# Altium footprint library PSON.PcbLib: 7 footprints
Each footprint in its own frame and in the unit in brackets; x right, y up, seen from the top. Pads: shape width x height; smd on the part's side, far side on the other; paste and mask are expansions set on the pad; w line width, h text height; cw(c..) or ccw(c..) is an arc to the next point about the centre after c.
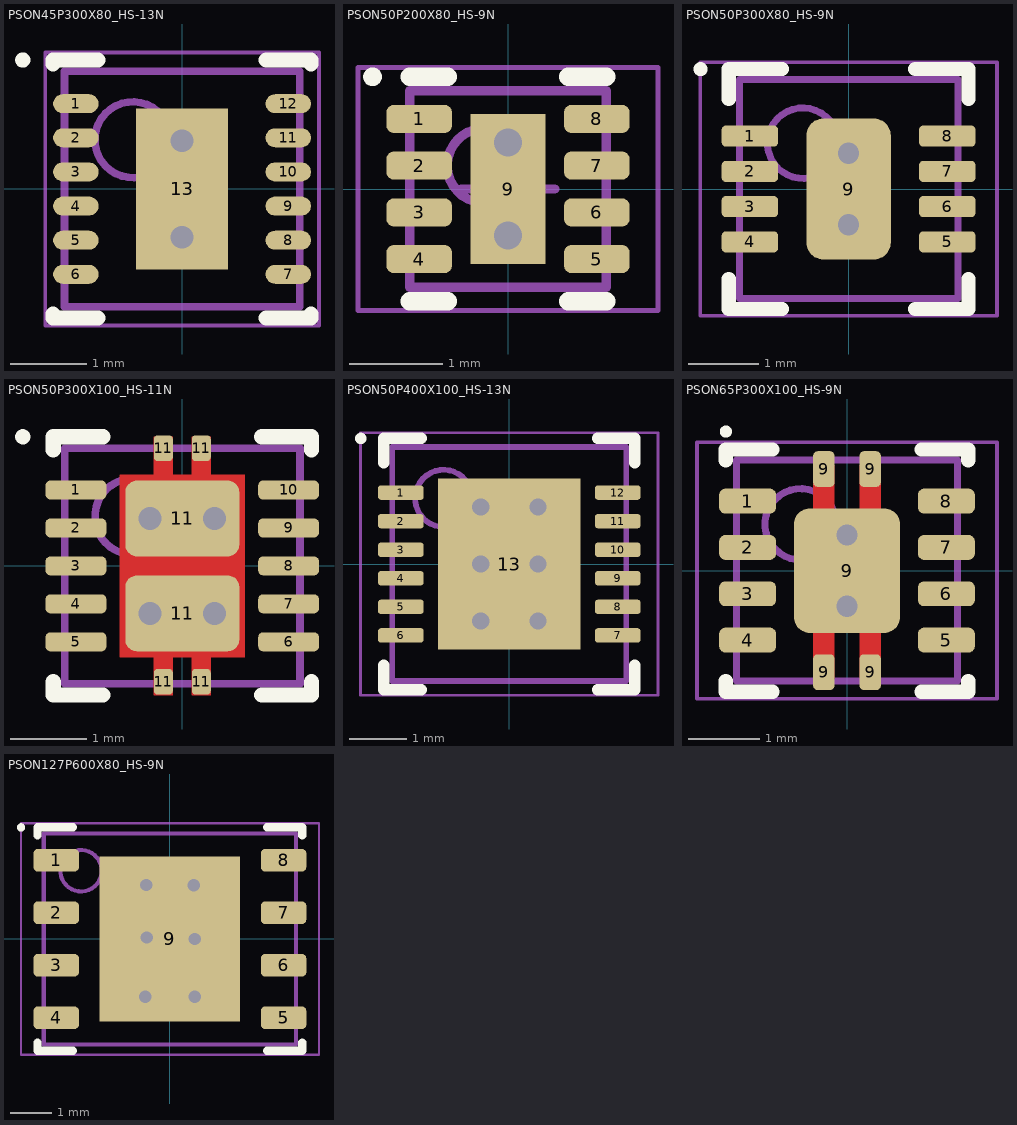
[diagram p0: the footprints below, top view; thin cyan lines are the x and y axes]

## PSON45P300X80_HS-13N [mm] "PSON, 12-Leads, Body 3,00x3,00mm, Pitch 0,45mm, Thermal Pad 2,02x1,21mm, IPC Medium Density"
height 0.8
pads (13):
  oval 0.6x0.25 smd: 1(-1.4,1.125) 2(-1.4,0.675) 3(-1.4,0.225) 4(-1.4,-0.225) 5(-1.4,-0.675) 6(-1.4,-1.125) 7(1.4,-1.125) 8(1.4,-0.675) 9(1.4,-0.225) 10(1.4,0.225) 11(1.4,0.675) 12(1.4,1.125)
  rect 1.21x2.12 smd paste-0.605: 13(0,0)
via 0,0.635 diameter 0.6 hole 0.3
via 0,-0.635 diameter 0.6 hole 0.3
Top Overlay:
  circle w0.1: c-2.1,1.7 r0.05
  lines w0.2: -1.7,-1.65 -1.7,-1.7 -1.11,-1.7 ; -1.7,1.65 -1.7,1.7 -1.11,1.7 ; 1.11,-1.7 1.7,-1.7 1.7,-1.65 ; 1.11,1.7 1.7,1.7 1.7,1.65
Top Paste:
  rectangle: -0.565,-1.05 0.565,-0.15
  rectangle: -0.565,0.15 0.565,1.05
Top Assembly:
  circle w0.1: c-0.65,0.65 r0.5
  lines w0.1: -1.55,-1.55 1.55,-1.55 1.55,1.55 -1.55,1.55 -1.55,-1.55
Mechanical 15:
  lines w0.05: -1.805,-1.8 1.805,-1.8 1.805,1.8 -1.805,1.8 -1.805,-1.8
  lines w0.1: -0.5,0 0.5,0 ; 0,-0.5 0,0.5
3D body "PSON45P300X80_HS-13N.step": height 0.8, standoff 0, extent -1.551,-1.55 1.551,1.55

## PSON50P200X80_HS-9N [mm] "SON, 8-Leads, Body 2,00x2,00mm, Pitch 0,50mm, Thermal Pad 1,60x0,69mm, IPC Medium Density"
height 0.8
pads (9):
  rrect50% 0.7x0.3 smd: 1(-0.95,0.75) 2(-0.95,0.25) 3(-0.95,-0.25) 4(-0.95,-0.75) 5(0.95,-0.75) 6(0.95,-0.25) 7(0.95,0.25) 8(0.95,0.75)
  rect 0.8x1.6 smd: 9(0,0)
via 0,0.5 diameter 0.6 hole 0.3
via 0,-0.5 diameter 0.6 hole 0.3
Top Overlay:
  circle w0.1: c-1.45,1.2 r0.05
  lines w0.2: -1.05,-1.2 -0.645,-1.2 ; -1.05,1.2 -0.645,1.2 ; 0.645,-1.2 1.05,-1.2 ; 0.645,1.2 1.05,1.2
Top Assembly:
  circle w0.1: c-0.25,0.25 r0.4
  lines w0.1: -1.05,-1.05 1.05,-1.05 1.05,1.05 -1.05,1.05 -1.05,-1.05
Mechanical 15:
  lines w0.05: -1.605,-1.3 1.605,-1.3 1.605,1.3 -1.605,1.3 -1.605,-1.3
  lines w0.1: -0.5,0 0.5,0 ; 0,-0.5 0,0.5
3D body "SON50P200X80_HS-9N.step": height 0.8, standoff 0, extent -1.1,-1.05 1.1,1.05

## PSON50P300X80_HS-9N [mm] "SON, 8-Leads, Body 3,00x3,00mm, Pitch 0,50mm, Thermal Pad 2,00x1,20mm, IPC Medium Density"
height 0.8
pads (9):
  rrect40% 0.8x0.3 smd: 1(-1.4,0.75) 2(-1.4,0.25) 3(-1.4,-0.25) 4(-1.4,-0.75) 5(1.4,-0.75) 6(1.4,-0.25) 7(1.4,0.25) 8(1.4,0.75)
  rrect40% 1.2x2 smd: 9(0,0)
via 0,-0.508 diameter 0.6 hole 0.3
via 0,0.508 diameter 0.6 hole 0.3
Top Overlay:
  circle w0.1: c-2.1,1.7 r0.05
  lines w0.2: -1.7,-1.275 -1.7,-1.7 -0.945,-1.7 ; -1.7,1.275 -1.7,1.7 -0.945,1.7 ; 0.945,-1.7 1.7,-1.7 1.7,-1.275 ; 0.945,1.7 1.7,1.7 1.7,1.275
Top Assembly:
  circle w0.1: c-0.65,0.65 r0.5
  lines w0.1: -1.55,-1.55 1.55,-1.55 1.55,1.55 -1.55,1.55 -1.55,-1.55
Mechanical 15:
  lines w0.05: -2.105,-1.8 2.105,-1.8 2.105,1.8 -2.105,1.8 -2.105,-1.8
  lines w0.1: -0.5,0 0.5,0 ; 0,-0.5 0,0.5
3D body "SON50P300X80_HS-9N.step": height 0.8, standoff 0, extent -1.6,-1.55 1.6,1.55

## PSON50P300X100_HS-11N [mm] "SON, 10-Leads, Body 3,00x3,00mm, Pitch 0,50mm, Thermal Pad 2,40x1,65mm, IPC Medium Density"
height 1
pads (16):
  rrect50% 0.8x0.25 smd: 1(-1.4,1) 2(-1.4,0.5) 3(-1.4,0) 4(-1.4,-0.5) 5(-1.4,-1) 6(1.4,-1) 7(1.4,-0.5) 8(1.4,0) 9(1.4,0.5) 10(1.4,1)
  rrect40% 0.25x0.34 smd: 11(-0.25,-1.525) 11(-0.25,1.55) 11(0.25,-1.525) 11(0.25,1.55)
  rrect30% 1.5x1 smd: 11(0,-0.625) 11(0,0.625)
via 0.425,0.625 diameter 0.6 hole 0.3
via -0.425,0.625 diameter 0.6 hole 0.3
via 0.425,-0.625 diameter 0.6 hole 0.3
via -0.425,-0.625 diameter 0.6 hole 0.3
Top Layer:
  region: -0.375,-1.2 -0.375,-1.7 -0.125,-1.7 -0.125,-1.2
  region: 0.125,-1.2 0.125,-1.7 0.375,-1.7 0.375,-1.2
  region: 0.125,1.7 0.125,1.2 0.375,1.2 0.375,1.7
  region: -0.375,1.7 -0.375,1.2 -0.125,1.2 -0.125,1.7
  region: -0.825,1.2 -0.825,-1.2 0.825,-1.2 0.825,1.2
Top Overlay:
  circle w0.1: c-2.1,1.7 r0.05
  lines w0.2: -1.7,-1.525 -1.7,-1.7 -1.045,-1.7 ; -1.7,1.525 -1.7,1.7 -1.045,1.7 ; 1.045,-1.7 1.7,-1.7 1.7,-1.525 ; 1.045,1.7 1.7,1.7 1.7,1.525
Top Solder:
  rectangle: -0.475,-1.575 0.475,-1.2
  rectangle: 0.775,-1.225 1.775,1.225
  rectangle: -1.825,-1.225 -0.825,1.225
  rectangle: -0.475,1.225 0.475,1.6
  region: -0.9,1.275 0.9,1.275 0.9,-1.275 -0.9,-1.275
Top Assembly:
  circle w0.1: c-0.65,0.65 r0.5
  lines w0.1: -1.55,-1.55 -1.55,1.55 1.55,1.55 1.55,-1.55 -1.55,-1.55
3D body "User Library-WSON-10_Ti.STEP": height 0.8, standoff 0, extent -1.55,-1.55 1.55,1.55

## PSON50P400X100_HS-13N [mm] "PSON, 12-Leads, Body 4,00x4,00mm, Pitch 0,50mm, Thermal Pad 3,00x2,49mm, IPC Medium Density"
height 1
pads (13):
  rrect40% 0.8x0.25 smd: 1(-1.9,1.25) 2(-1.9,0.75) 3(-1.9,0.25) 4(-1.9,-0.25) 5(-1.9,-0.75) 6(-1.9,-1.25) 7(1.9,-1.25) 8(1.9,-0.75) 9(1.9,-0.25) 10(1.9,0.25) 11(1.9,0.75) 12(1.9,1.25)
  rect 2.49x3 smd paste-1.245: 13(0,0)
via 0.5,-1 diameter 0.6 hole 0.3
via -0.5,-1 diameter 0.6 hole 0.3
via 0.5,0 diameter 0.6 hole 0.3
via -0.5,0 diameter 0.6 hole 0.3
via 0.5,1 diameter 0.6 hole 0.3
via -0.5,1 diameter 0.6 hole 0.3
Top Overlay:
  circle w0.1: c-2.6,2.2 r0.05
  lines w0.2: -2.2,-1.775 -2.2,-2.2 -1.545,-2.2 ; -2.2,1.775 -2.2,2.2 -1.545,2.2 ; 1.545,-2.2 2.2,-2.2 2.2,-1.775 ; 1.545,2.2 2.2,2.2 2.2,1.775
Top Paste:
  rectangle: 0.1,-1.4 1.15,-0.1
  rectangle: 0.1,0.1 1.15,1.4
  rectangle: -1.15,-1.4 -0.1,-0.1
  rectangle: -1.15,0.1 -0.1,1.4
Top Assembly:
  circle w0.1: c-1.15,1.15 r0.5
  lines w0.1: -2.05,-2.05 2.05,-2.05 2.05,2.05 -2.05,2.05 -2.05,-2.05
Mechanical 15:
  lines w0.05: -2.605,-2.3 2.605,-2.3 2.605,2.3 -2.605,2.3 -2.605,-2.3
  lines w0.1: -0.5,0 0.5,0 ; 0,-0.5 0,0.5
3D body "SON50P400X100_HS-13N.step": height 1, standoff 0, extent -2.051,-2.05 2.051,2.05

## PSON65P300X100_HS-9N [mm] "SON, 8-Leads, Body 3,00x3,00mm, Pitch 0,65mm, Thermal Pad 1,75x1,49mm, IPC Medium Density"
height 1
pads (13):
  rrect50% 0.8x0.35 smd: 1(-1.395,0.975) 2(-1.395,0.325) 3(-1.395,-0.325) 4(-1.395,-0.975) 5(1.395,-0.975) 6(1.395,-0.325) 7(1.395,0.325) 8(1.395,0.975)
  rrect40% 0.3x0.5 smd: 9(-0.325,-1.425) 9(-0.325,1.425) 9(0.325,-1.425) 9(0.325,1.425)
  rrect30% 1.49x1.75 smd paste-0.745: 9(0,0)
via 0,0.5 diameter 0.6 hole 0.3
via 0,-0.5 diameter 0.6 hole 0.3
Top Layer:
  rectangle: 0.175,-1.5 0.475,-0.7
  rectangle: -0.475,-1.525 -0.175,-0.675
  rectangle: 0.175,0.85 0.475,1.475
  rectangle: -0.475,0.8 -0.175,1.475
Top Overlay:
  circle w0.1: c-1.7,1.95 r0.035
  lines w0.2: -1.7,-1.55 -1.7,-1.7 -1.045,-1.7 ; -1.7,1.55 -1.7,1.7 -1.045,1.7 ; 1.045,-1.7 1.7,-1.7 1.7,-1.55 ; 1.045,1.7 1.7,1.7 1.7,1.55
Top Paste:
  rectangle: -0.67,-0.775 0.67,0.775
Top Solder:
  region: -0.075,-0.775 -0.575,-0.775 -0.575,-1.325 -0.075,-1.325
  region: 0.575,-0.75 0.075,-0.75 0.075,-1.3 0.575,-1.3
  rectangle: 0.075,0.875 0.575,1.425
  rectangle: -0.575,0.8 -0.075,1.45
Top Assembly:
  circle w0.1: c-0.65,0.65 r0.5
  lines w0.1: -1.55,-1.55 1.55,-1.55 1.55,1.55 -1.55,1.55 -1.55,-1.55
Mechanical 15:
  lines w0.05: -2.105,-1.8 2.105,-1.8 2.105,1.8 -2.105,1.8 -2.105,-1.8
  lines w0.1: -0.5,0 0.5,0 ; 0,-0.5 0,0.5
3D body "VSON-8.STEP": height 1, standoff 0, extent -1.5,-1.5 1.5,1.5

## PSON127P600X80_HS-9N [mm] "PSON, 8-Leads, Body 5,00x6,00mm, Pitch 1,27mm, Thermal Pad 4,00x3,40mm, IPC Medium Density"
height 0.8
pads (9):
  rrect40% 1.1x0.55 smd: 1(-2.75,1.905) 2(-2.75,0.635) 3(-2.75,-0.635) 4(-2.75,-1.905) 5(2.75,-1.905) 6(2.75,-0.635) 7(2.75,0.635) 8(2.75,1.905)
  rect 3.4x4 smd paste-1.7: 9(0,0)
via 0.6,-1.4 diameter 0.6 hole 0.3
via -0.6,-1.4 diameter 0.6 hole 0.3
via 0.6,0 diameter 0.6 hole 0.3
via 0.572,1.295 diameter 0.6 hole 0.3
via -0.561,0.037 diameter 0.6 hole 0.3
via -0.569,1.306 diameter 0.6 hole 0.3
Top Overlay:
  circle w0.1: c-3.6,2.7 r0.05
  lines w0.2: -3.2,-2.505 -3.2,-2.7 -2.345,-2.7 ; -3.2,2.505 -3.2,2.7 -2.345,2.7 ; 2.345,-2.7 3.2,-2.7 3.2,-2.505 ; 2.345,2.7 3.2,2.7 3.2,2.505
Top Paste:
  rectangle: 0.665,-1.895 1.595,-0.765
  rectangle: 0.665,-0.565 1.595,0.565
  rectangle: 0.665,0.765 1.595,1.895
  rectangle: -0.465,-1.895 0.465,-0.765
  rectangle: -0.465,-0.565 0.465,0.565
  rectangle: -0.465,0.765 0.465,1.895
  rectangle: -1.595,-1.895 -0.665,-0.765
  rectangle: -1.595,-0.565 -0.665,0.565
  rectangle: -1.595,0.765 -0.665,1.895
Top Assembly:
  circle w0.1: c-2.15,1.65 r0.5
  lines w0.1: -3.05,-2.55 3.05,-2.55 3.05,2.55 -3.05,2.55 -3.05,-2.55
Mechanical 15:
  lines w0.05: -3.605,-2.8 3.605,-2.8 3.605,2.8 -3.605,2.8 -3.605,-2.8
  lines w0.1: -0.5,0 0.5,0 ; 0,-0.5 0,0.5
3D body "SON127P600X80_HS-9N.step": height 0.8, standoff 0, extent -3.1,-2.55 3.1,2.55